# Altium footprint library 2021-05-01_16-02-10.PcbLib: 1 footprints
Each footprint in its own frame and in the unit in brackets; x right, y up, seen from the top. Pads: shape width x height; smd on the part's side, far side on the other; paste and mask are expansions set on the pad; w line width, h text height; cw(c..) or ccw(c..) is an arc to the next point about the centre after c.
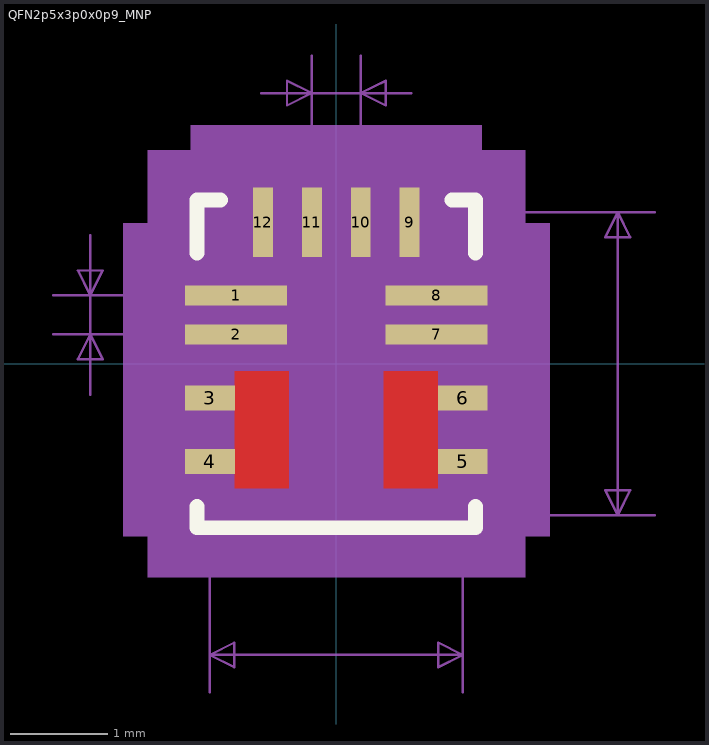
[diagram p0: the footprint, top view; thin cyan lines are the x and y axes]

## QFN2p5x3p0x0p9_MNP [mil]
pads (12):
  rect 41x8 smd paste+0 mask+0: 1(-40.35,27.57) 2(-40.35,11.81) 7(40.35,11.81) 8(40.35,27.57)
  rect 20x10 smd paste+0 mask+0: 3(-50.87,-13.78) 4(-50.87,-39.38) 5(50.87,-39.38) 6(50.87,-13.78)
  rect 8x28 smd paste+0 mask+0: 9(29.54,57.09) 10(9.85,57.09) 11(-9.85,57.09) 12(-29.54,57.09)
Top Layer:
  region: -40.87,-50.2 -40.87,-2.96 -19.21,-2.96 -19.21,-50.2
  region: 19.21,-50.2 19.21,-2.96 40.87,-2.96 40.87,-50.2
Top Overlay:
  lines w6: -56,-57.48 -56,-66 56,-66 56,-57.48 ; -56,44.67 -56,66 -46.63,66 ; 46.63,66 56,66 56,44.67
Top Paste:
  region: -40.87,-50.2 -40.87,-2.96 -19.21,-2.96 -19.21,-50.2
  region: 19.21,-50.2 19.21,-2.96 40.87,-2.96 40.87,-50.2
Top Solder:
  region: -40.87,-50.2 -40.87,-2.96 -19.21,-2.96 -19.21,-50.2
  region: 19.21,-50.2 19.21,-2.96 40.87,-2.96 40.87,-50.2
Mechanical 5:
  region: 58.53,96.09 -58.53,96.09 -58.53,86 -76,86 -76,56.57 -85.85,56.57 -85.85,16.22 -85.87,16.22 -85.87,-69.38 -76,-69.38 -76,-86 76,-86 76,-69.38 85.87,-69.38 85.87,-17.19 85.85,-17.19 85.85,56.57 76,56.57 76,86 58.53,86
Mechanical 7:
  lines w1: -114.03,11.81 -40.35,11.81 ; -114.03,27.57 -40.35,27.57 ; -99.03,-12.43 -99.03,27.57 ; -99.03,51.81 -99.03,11.81 ; -51,-132.22 -51,-61 ; -30.16,109.01 9.84,109.01 ; -9.85,57.09 -9.85,124.01 ; 9.85,57.09 9.84,124.01 ; 30.15,109.01 -9.85,109.01 ; 51,-132.22 51,-61 128.3,-61 ; 51,61 128.3,61 ; -99.03,11.81 -94.03,1.81 -104.03,1.81 -99.03,11.81 ; -99.03,27.57 -104.03,37.57 -94.03,37.57 -99.03,27.57 ; -51,-117.22 51,-117.22 ; -51,-117.22 -41,-112.22 -41,-122.22 -51,-117.22 ; -9.85,109.01 -19.84,104.01 -19.84,114.01 -9.85,109.01 ; 9.84,109.01 19.84,114.01 19.84,104.01 9.84,109.01 ; 51,-117.22 41,-122.22 41,-112.22 51,-117.22 ; 113.3,-61 113.3,61 ; 113.3,-61 108.3,-51 118.3,-51 113.3,-61 ; 113.3,61 118.3,51 108.3,51 113.3,61
  text "Pin 1 Padstyle: RX41Y8D0T" at -312.5,-271.09 h50
  text "Default Padstyle: RX28Y8D0T" at -337.5,-331.09 h50
  text "Alt 1 Padstyle: RX20Y10D0T" at -325,-511.09 h50
  text "Alt 2 Padstyle: OX90Y60D30P" at -337.5,-571.09 h50
  text "0.016in/0.4mm" at -281.53,7.19 h25
  text "0.02in/0.5mm" at -75,129.01 h25
  text "0.102in/2.591mm" at -93.75,-162.22 h25
  text "0.122in/3.099mm" at 133.3,-12.5 h25
Mechanical 13:
  circle w0: c-29.85,29.54 r0
  lines w1: -51,11 -1,61 ; -51,-61 51,-61 51,61 -51,61 -51,-61
Mechanical 15:
  region: 43.53,81.09 -43.53,81.09 -43.53,71 -61,71 -61,41.57 -70.85,41.57 -70.85,1.22 -70.87,1.22 -70.87,-54.38 -61,-54.38 -61,-71 61,-71 61,-54.38 70.87,-54.38 70.87,-2.19 70.85,-2.19 70.85,41.57 61,41.57 61,71 43.53,71
  lines w6: -70.85,1.22 -70.85,41.57 -61,41.57 -61,71 -43.53,71 -43.53,81.09 43.53,81.09 43.53,71 61,71 61,41.57 70.85,41.57 70.85,-2.19 ; -70.85,1.22 -70.87,1.22 ; -70.87,1.22 -70.87,-54.38 -61,-54.38 -61,-71 61,-71 61,-54.38 70.87,-54.38 70.87,-2.19 ; 70.87,-2.19 70.85,-2.19
3D body: height 10, standoff 0, extent 0,0 10,10